# Altium footprint library Lora.PcbLib: 1 footprints
Each footprint in its own frame and in the unit in brackets; x right, y up, seen from the top. Pads: shape width x height; smd on the part's side, far side on the other; paste and mask are expansions set on the pad; w line width, h text height; cw(c..) or ccw(c..) is an arc to the next point about the centre after c.
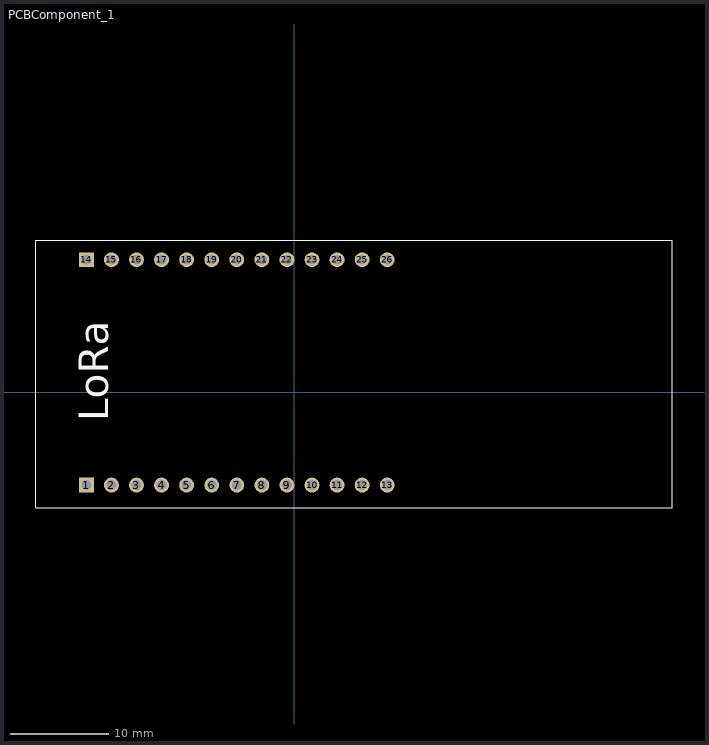
[diagram p0: the footprint, top view; thin cyan lines are the x and y axes]

## PCBComponent_1 [mm]
pads (26):
  rect 1.508x1.508 hole 1: 1(-21.042,-9.398) 14(-21.042,13.436)
  round 1.508 hole 1: 2(-18.502,-9.398) 3(-15.962,-9.398) 4(-13.422,-9.398) 5(-10.882,-9.398) 6(-8.342,-9.398) 7(-5.802,-9.398) 8(-3.262,-9.398) 9(-0.722,-9.398) 10(1.818,-9.398) 11(4.358,-9.398) 12(6.898,-9.398) 13(9.438,-9.398) 15(-18.502,13.436) 16(-15.962,13.436) 17(-13.422,13.436) 18(-10.882,13.436) 19(-8.342,13.436) 20(-5.802,13.436) 21(-3.262,13.436) 22(-0.722,13.436) 23(1.818,13.436) 24(4.358,13.436) 25(6.898,13.436) 26(9.438,13.436)
Top Overlay:
  lines w0.1: -26.162,-11.705 38.308,-11.705 38.308,15.425 -26.162,15.425 -26.162,-11.705
  text "LoRa" at -18.815,-2.902 h3